# Altium schematic symbol library Molex.SchLib: 1 symbol
Pins are listed as number, name and electrical type; pins without a type are passive.

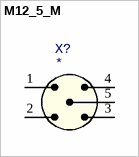
[diagram p0: symbol M12_5_M]

## M12_5_M
designator X?
pins: 1, 2, 3, 4, 5